# EAGLE library part AD8622 (library AD8622)
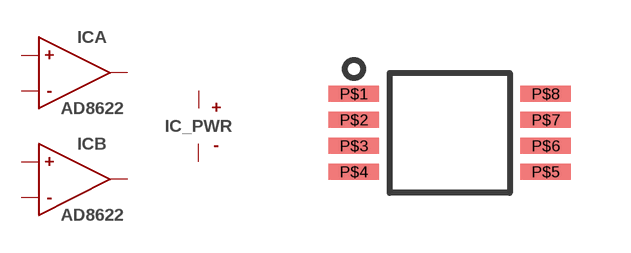
[diagram p0: symbol with the pads of MSOP8; footprint MSOP8]

Designator prefix IC; gates A=OP-AMP B=OP-AMP _PWR=PWR

## AD8622ARMZ  [MSOP8]
P$1  A:OUT  out
P$2  A:INN  in
P$3  A:INP  in
P$4  _PWR:GND  pwr
P$5  B:INP  in
P$6  B:INN  in
P$7  B:OUT  out
P$8  _PWR:VDD  pwr

## Footprint MSOP8 (pad centres in mm)
smd 1.26 x 0.4: P$1 -2.4,0.975; P$2 -2.4,0.325; P$3 -2.4,-0.325; P$4 -2.4,-0.975; P$5 2.4,-0.975; P$6 2.4,-0.325; P$7 2.4,0.325; P$8 2.4,0.975